# Altium footprint library 0900BL18B100.pcblib: 1 footprints
Each footprint in its own frame and in the unit in brackets; x right, y up, seen from the top. Pads: shape width x height; smd on the part's side, far side on the other; paste and mask are expansions set on the pad; w line width, h text height; cw(c..) or ccw(c..) is an arc to the next point about the centre after c.
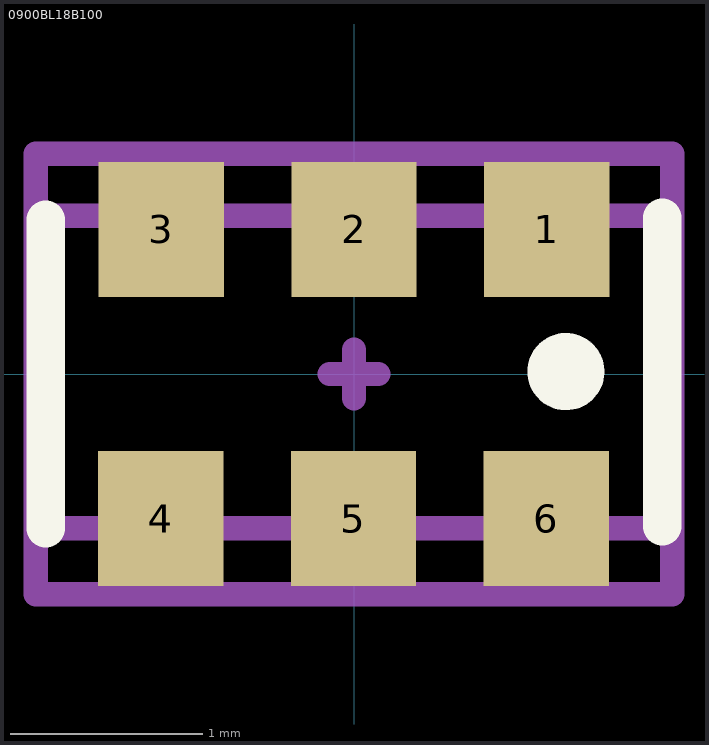
[diagram p0: the footprint, top view; thin cyan lines are the x and y axes]

## 0900BL18B100 [mm]
pads (6):
  rect 0.65x0.7 smd: 1(1,0.75) 2(0,0.75) 3(-1,0.75) 4(-1.003,-0.75) 5(-0.003,-0.75) 6(0.997,-0.75)
Top Overlay:
  circle w0.2: c1.1,0.012 r0.1
  lines w0.2: -1.6,-0.8 -1.6,0.8 ; 1.599,-0.789 1.599,0.811
Mechanical 13:
  lines w0.127: -1.603,0.822 -1.6,0.822 ; -1.6,0.822 1.6,0.822 1.6,-0.8 -1.6,-0.8 -1.6,0.822
Mechanical 15:
  lines w0.127: -0.127,0 0.127,0 ; 0,-0.127 0,0.127 ; -1.651,-1.143 1.651,-1.143 1.651,1.143 -1.651,1.143 -1.651,-1.143
Mechanical 17:
  text "'.Designator'" at -1.524,-0.127 h0.38
Mechanical 19:
  text "'.Comment'" at -1.524,-0.127 h0.38
3D body: height 0.71, standoff 0, extent 0.925,-0.1 1.275,0.125
3D body: height 0.7, standoff 0, extent -1.603,-0.8 1.6,0.822
3D body: height 0.71, standoff 0, extent 0.672,-0.816 1.322,-0.378
3D body: height 0.71, standoff 0, extent -0.325,-0.819 0.325,-0.381
3D body: height 0.71, standoff 0, extent -1.325,-0.816 -0.675,-0.378
3D body: height 0.71, standoff 0, extent 0.672,0.4 1.322,0.838
3D body: height 0.71, standoff 0, extent -0.325,0.406 0.325,0.844
3D body: height 0.71, standoff 0, extent -1.325,0.4 -0.675,0.838